# EAGLE library part NC7SZ57P6X (library Fairchild_By_element14_Batch_1)
Universal configurable 2 input logic gates
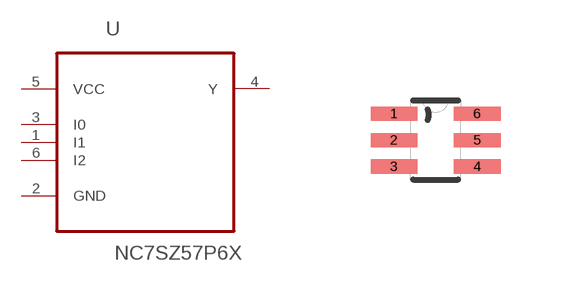
[diagram p357: symbol with the pads of SOT65P210X110-6N; footprint SOT65P210X110-6N]

Designator prefix U

## NC7SZ57P6X (MPN: NC7SZ57P6X; OC_FARNELL: 1652014; OC_NEWARK: 38C7596; PACKAGE: SC-70-6; SUPPLIER: Fairchild Semiconductor)  [SOT65P210X110-6N]
1  I1  in
2  GND  pas
3  I0  in
4  Y  out
5  VCC  pwr
6  I2  in

## Footprint SOT65P210X110-6N (pad centres in mm)
smd 1.168 x 0.356: 1 -1.041,0.66; 2 -1.041,0; 3 -1.041,-0.66; 4 1.041,-0.66; 5 1.041,0; 6 1.041,0.66